# Altium footprint library NET_TIE-30.PcbLib: 1 footprints
Each footprint in its own frame and in the unit in brackets; x right, y up, seen from the top. Pads: shape width x height; smd on the part's side, far side on the other; paste and mask are expansions set on the pad; w line width, h text height; cw(c..) or ccw(c..) is an arc to the next point about the centre after c.
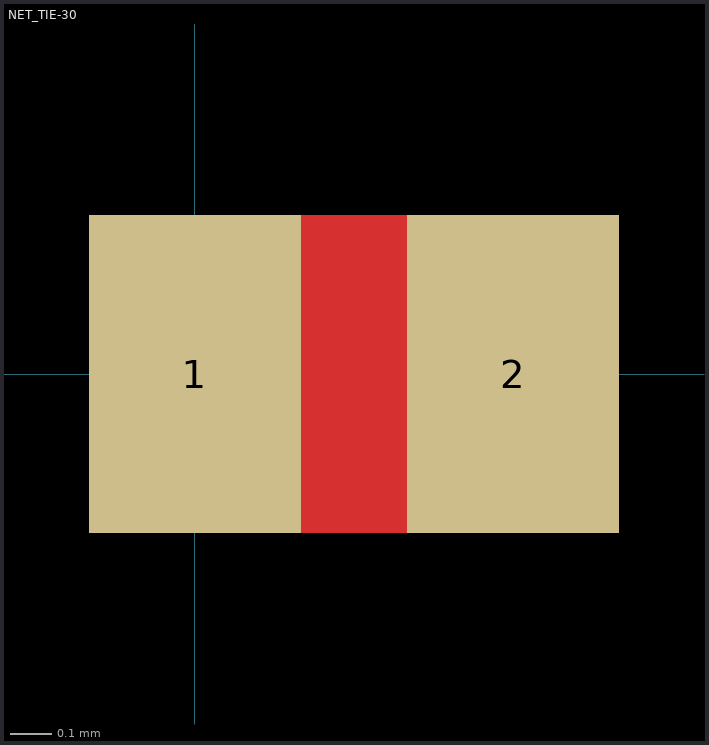
[diagram p0: the footprint, top view; thin cyan lines are the x and y axes]

## NET_TIE-30 [mil] "12mil patch for net tie."
pads (2):
  rect 20x30 smd paste-20 mask+4: 1(0,0) 2(30,0)
Top Layer:
  lines w30: 5,0 25,0